# Altium schematic symbol library Molex Micro-Fit 3.0.SchLib: 5 symbols
Pins are listed as number, name and electrical type; pins without a type are passive.

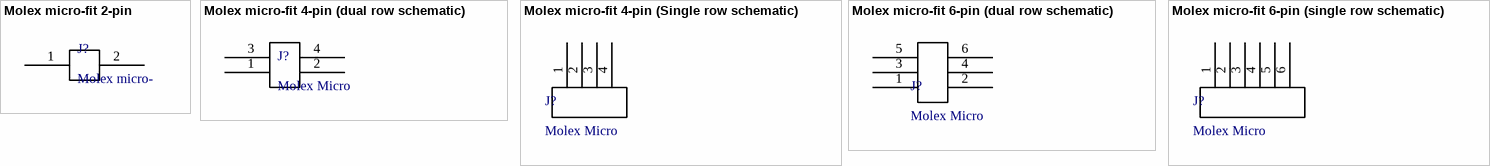
[diagram p0: symbols Molex micro-fit 2-pin to Molex micro-fit 6-pin (single row schematic)]

## Molex micro-fit 2-pin
designator J?, comment Molex micro-
Molex micro-fit 3.0. Molex P/N 0430450227
footprint 0430450227 (Molex Micro fit 3.0)
pins: 1, 2

## Molex micro-fit 4-pin (dual row schematic)
designator J?, comment Molex Micro
Molex micro-fit 3.0, P/N 0430450427
footprint 0430450427 (Molex micro-fit 3.0 4 pos)
pins: 1, 2, 3, 4

## Molex micro-fit 4-pin (Single row schematic)
designator J?, comment Molex Micro
Molex micro-fit 3.0 dual row header. P/N 0430450427
footprint 0430450427 (Molex micro-fit 3.0 4 pos)
pins: 1, 2, 3, 4

## Molex micro-fit 6-pin (dual row schematic)
designator J?, comment Molex Micro
Molex micro-fit 3.0 dual row connector. P/N 0430450627
footprint 0430450627 (Molex micro-fit 3.0 6 position)
pins: 1, 2, 3, 4, 5, 6

## Molex micro-fit 6-pin (single row schematic)
designator J?, comment Molex Micro
Molex micro-fit 3.0 dual row connector. P/N 0430450627
footprint 0430450627 (Molex micro-fit 3.0 6 position)
pins: 1, 2, 3, 4, 5, 6